# Altium schematic symbol library ADAU1761.SchLib: 9 symbols
Pins are listed as number, name and electrical type; pins without a type are passive.

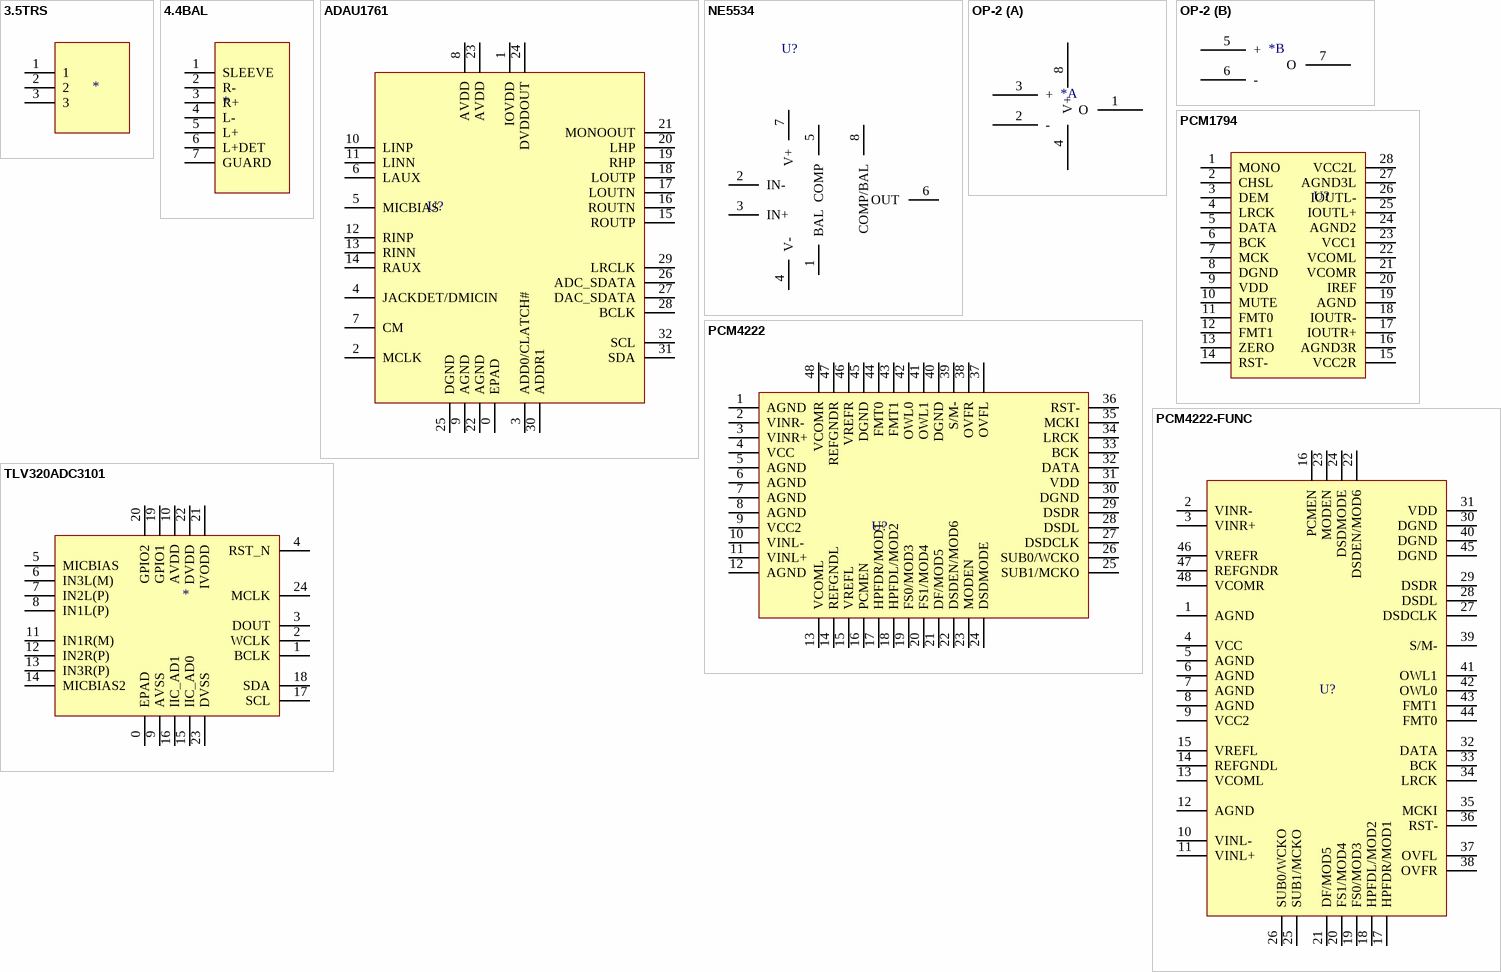
[diagram p0: symbols 3.5TRS to TLV320ADC3101]

## 3.5TRS
designator *  (value not drawn)
pins: 1, 2, 3

## 4.4BAL
designator *  (value not drawn)
footprint 4.4BAL
pins: 1 SLEEVE, 2 R-, 3 R+, 4 L-, 5 L+, 6 L+DET, 7 GUARD

## ADAU1761
designator U?  (value not drawn)
footprint ADAU1761
pins: 0 EPAD, 1 IOVDD, 2 MCLK, 3 ADD0/CLATCH#, 4 JACKDET/DMICIN, 5 MICBIAS, 6 LAUX, 7 CM, 8 AVDD, 9 AGND, 10 LINP, 11 LINN, 12 RINP, 13 RINN, 14 RAUX, 15 ROUTP, 16 ROUTN, 17 LOUTN, 18 LOUTP, 19 RHP, 20 LHP, 21 MONOOUT, 22 AGND, 23 AVDD, 24 DVDDOUT, 25 DGND, 26 ADC_SDATA, 27 DAC_SDATA, 28 BCLK, 29 LRCLK, 30 ADDR1, 31 SDA, 32 SCL

## NE5534
designator U?  (value not drawn)
footprint SO8
pins: 1 BAL, 2 IN-, 3 IN+, 4 V-, 5 COMP, 6 OUT, 7 V+, 8 COMP/BAL

## OP-2
designator *  (value not drawn)
footprint SO8
part A pins: 1 O, 2 -, 3 +, 4 5, 8 V+
part B pins: 5 +, 6 -, 7 O

## PCM1794
designator U?  (value not drawn)
footprint PCM1794
pins: 1 MONO, 2 CHSL, 3 DEM, 4 LRCK, 5 DATA, 6 BCK, 7 MCK, 8 DGND, 9 VDD, 10 MUTE, 11 FMT0, 12 FMT1, 13 ZERO, 14 RST-, 15 VCC2R, 16 AGND3R, 17 IOUTR+, 18 IOUTR-, 19 AGND, 20 IREF, 21 VCOMR, 22 VCOML, 23 VCC1, 24 AGND2, 25 IOUTL+, 26 IOUTL-, 27 AGND3L, 28 VCC2L

## PCM4222
designator U?  (value not drawn)
footprint PCM4222 (QFP, 32-Leads, Body 7x7mm, Pitch 0.8mm, IPC Medium Density)
pins: 1 AGND, 2 VINR-, 3 VINR+, 4 VCC, 5 AGND, 6 AGND, 7 AGND, 8 AGND, 9 VCC2, 10 VINL-, 11 VINL+, 12 AGND, 13 VCOML, 14 REFGNDL, 15 VREFL, 16 PCMEN, 17 HPFDR/MOD1, 18 HPFDL/MOD2, 19 FS0/MOD3, 20 FS1/MOD4, 21 DF/MOD5, 22 DSDEN/MOD6, 23 MODEN, 24 DSDMODE, 25 SUB1/MCKO, 26 SUB0/WCKO, 27 DSDCLK, 28 DSDL, 29 DSDR, 30 DGND, 31 VDD, 32 DATA, 33 BCK, 34 LRCK, 35 MCKI, 36 RST-, 37 OVFL, 38 OVFR, 39 S/M-, 40 DGND, 41 OWL1, 42 OWL0, 43 FMT1, 44 FMT0, 45 DGND, 46 VREFR, 47 REFGNDR, 48 VCOMR

## PCM4222-FUNC
designator U?  (value not drawn)
footprint PCM4222 (QFP, 32-Leads, Body 7x7mm, Pitch 0.8mm, IPC Medium Density)
pins: 1 AGND, 2 VINR-, 3 VINR+, 4 VCC, 5 AGND, 6 AGND, 7 AGND, 8 AGND, 9 VCC2, 10 VINL-, 11 VINL+, 12 AGND, 13 VCOML, 14 REFGNDL, 15 VREFL, 16 PCMEN, 17 HPFDR/MOD1, 18 HPFDL/MOD2, 19 FS0/MOD3, 20 FS1/MOD4, 21 DF/MOD5, 22 DSDEN/MOD6, 23 MODEN, 24 DSDMODE, 25 SUB1/MCKO, 26 SUB0/WCKO, 27 DSDCLK, 28 DSDL, 29 DSDR, 30 DGND, 31 VDD, 32 DATA, 33 BCK, 34 LRCK, 35 MCKI, 36 RST-, 37 OVFL, 38 OVFR, 39 S/M-, 40 DGND, 41 OWL1, 42 OWL0, 43 FMT1, 44 FMT0, 45 DGND, 46 VREFR, 47 REFGNDR, 48 VCOMR

## TLV320ADC3101
designator *  (value not drawn)
footprint TLV320ADC3101
pins: 0 EPAD, 1 BCLK, 2 WCLK, 3 DOUT, 4 RST_N, 5 MICBIAS, 6 IN3L(M), 7 IN2L(P), 8 IN1L(P), 9 AVSS, 10 AVDD, 11 IN1R(M), 12 IN2R(P), 13 IN3R(P), 14 MICBIAS2, 15 IIC_AD0, 16 IIC_AD1, 17 SCL, 18 SDA, 19 GPIO1, 20 GPIO2, 21 IVODD, 22 DVDD, 23 DVSS, 24 MCLK